# Altium schematic symbol library SW2.SchLib: 1 symbol
Pins are listed as number, name and electrical type; pins without a type are passive.

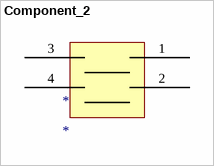
[diagram p0: symbol Component_2]

## Component_2
designator *
pins: 1, 2, 3, 4